# EAGLE library part HDMI (library SKAARHOJ)
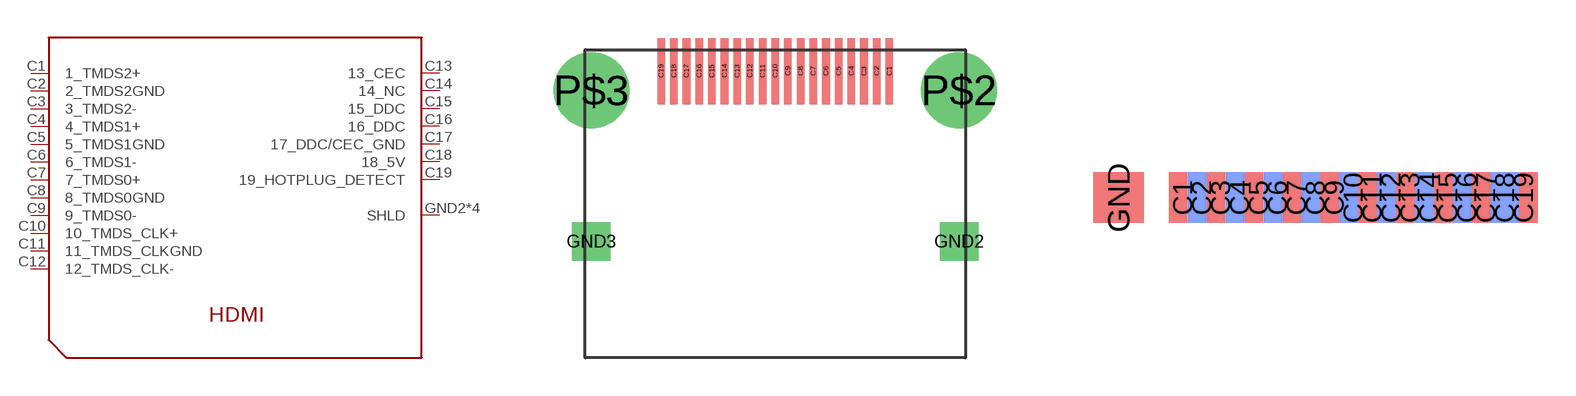
[diagram p25: symbol with the pads of HDMI; footprints HDMI, HDMI_MALEINTERCON]

Designator prefix -

## HDMI  [HDMI]
C1  1_TMDS2+
C2  2_TMDS2GND
C3  3_TMDS2-
C4  4_TMDS1+
C5  5_TMDS1GND
C6  6_TMDS1-
C7  7_TMDS0+
C8  8_TMDS0GND
C9  9_TMDS0-
C10  10_TMDS_CLK+
C11  11_TMDS_CLKGND
C12  12_TMDS_CLK-
C13  13_CEC
C14  14_NC
C15  15_DDC
C16  16_DDC
C17  17_DDC/CEC_GND
C18  18_5V
C19  19_HOTPLUG_DETECT
GND2  SHLD
GND3  SHLD
P$2  SHLD
P$3  SHLD

## HDMIPCBMALECON  [HDMI_MALEINTERCON]
C1  1_TMDS2+
C2  2_TMDS2GND
C3  3_TMDS2-
C4  4_TMDS1+
C5  5_TMDS1GND
C6  6_TMDS1-
C7  7_TMDS0+
C8  8_TMDS0GND
C9  9_TMDS0-
C10  10_TMDS_CLK+
C11  11_TMDS_CLKGND
C12  12_TMDS_CLK-
C13  13_CEC
C14  14_NC
C15  15_DDC
C16  16_DDC
C17  17_DDC/CEC_GND
C18  18_5V
C19  19_HOTPLUG_DETECT
GND  SHLD

## Footprint HDMI (pad centres in mm)
smd 0.3 x 2.6: C1 4.5,10.31; C2 4,10.31; C3 3.5,10.31; C4 3,10.31; C5 2.5,10.31; C6 2,10.31; C7 1.5,10.31; C8 1,10.31; C9 0.5,10.31; C10 0,10.31; C11 -0.5,10.31; C12 -1,10.31; C13 -1.5,10.31; C14 -2,10.31; C15 -2.5,10.31; C16 -3,10.31; C17 -3.5,10.31; C18 -4,10.31; C19 -4.5,10.31
drill 1 square: GND2 7.25,3.59; GND3 -7.25,3.59
drill 2: P$2 7.25,9.55; P$3 -7.25,9.55

## Footprint HDMI_MALEINTERCON (pad centres in mm)
smd 1.1 x 2: C1 -6.75,1; C3 -5.25,1; C5 -3.75,1; C7 -2.25,1; C9 -0.75,1; C11 0.75,1; C13 2.25,1; C15 3.75,1; C17 5.25,1; C19 6.75,1
smd 1.1 x 2 bottom: C2 -6,1; C4 -4.5,1; C6 -3,1; C8 -1.5,1; C10 0,1; C12 1.5,1; C14 3,1; C16 4.5,1; C18 6,1
smd 2 x 2: GND -9.29,1